# Altium footprint library Connector_Molex.PcbLib: 815 footprints (part 12 of 51)
Each footprint in its own frame and in the unit in brackets; x right, y up, seen from the top. Pads: shape width x height; smd on the part's side, far side on the other; paste and mask are expansions set on the pad; w line width, h text height; cw(c..) or ccw(c..) is an arc to the next point about the centre after c.
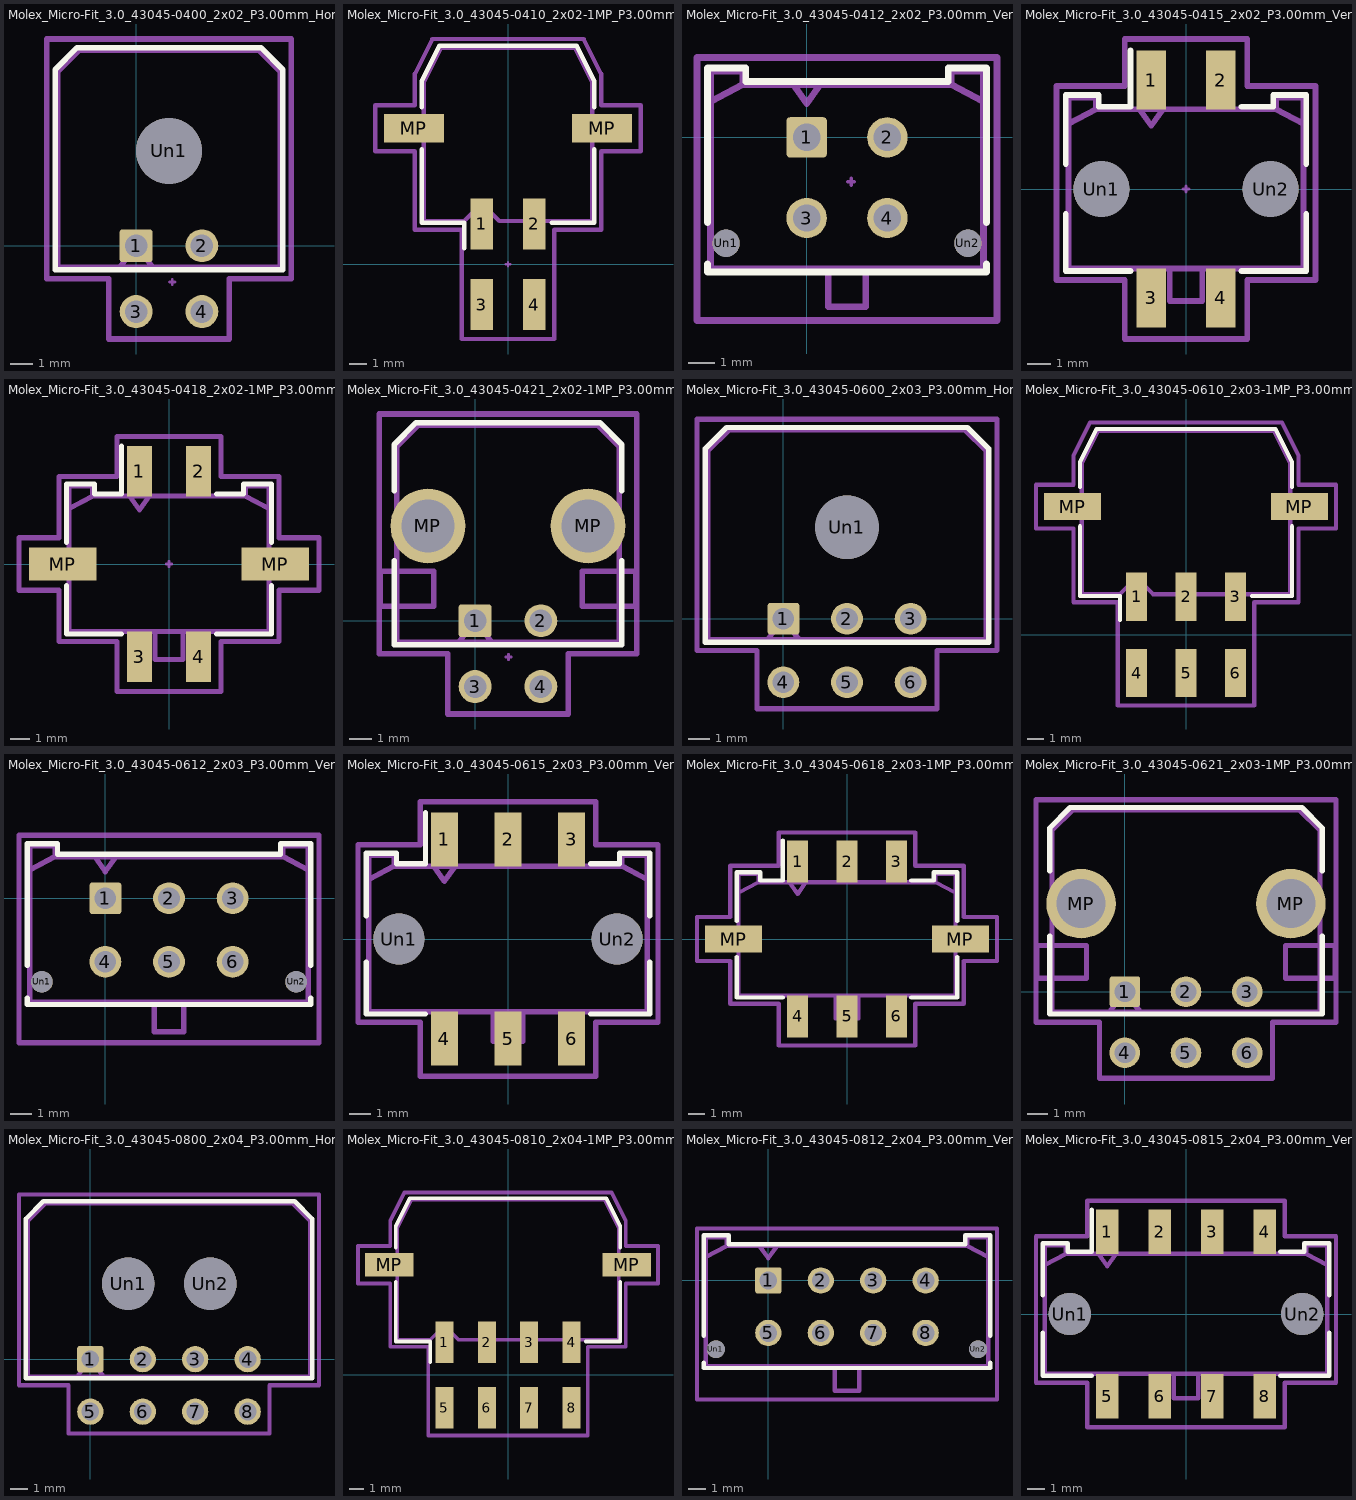
[diagram p11: the footprints below, top view; thin cyan lines are the x and y axes]

## Molex_Micro-Fit_3.0_43045-0400_2x02_P3.00mm_Horizontal [mm]
pads (5):
  rrect17% 1.5x1.5 hole 1.02: 1(0,0)
  round 1.5 hole 1.02: 2(3,0) 3(0,-3) 4(3,-3)
  round 3 hole 3: Un1(1.5,4.32)
F.SilkS:
  lines w0.254: -3.685,-1.1 -3.685,8.03 -2.685,9.03 5.685,9.03 6.685,8.03 6.685,-1.1 -3.685,-1.1
Top Component Center:
  lines w0.127: 1.524,-1.651 1.778,-1.651 ; 1.651,-1.778 1.651,-1.524
Top Assembly:
  lines w0.254: -0.75,-0.99 0,0 0.75,-0.99 ; -3.575,-0.99 -3.575,7.92 -2.575,8.92 5.575,8.92 6.575,7.92 6.575,-0.99 -3.575,-0.99
  text "'.Designator'" at -2.547,7.38 h1
Top Courtyard:
  lines w0.254: -4.08,-1.5 -4.08,9.42 7.08,9.42 7.08,-1.5 4.25,-1.5 4.25,-4.25 -1.25,-4.25 -1.25,-1.5 -4.08,-1.5
Top Designator:
  text ".Designator" at -1.91,1.433 h1.52
3D body "Molex_Micro-Fit_3.0_43045-0400_2x02_P3.00mm_Horizontal.stp": height 8.83, standoff -3.12, extent -3.551,-3.348 6.599,8.892

## Molex_Micro-Fit_3.0_43045-0410_2x02-1MP_P3.00mm_Horizontal [mm]
pads (6):
  rect 1.27x2.92 smd: 1(-1.5,2.315) 2(1.5,2.315) 3(-1.5,-2.315) 4(1.5,-2.315)
  rect 3.43x1.65 smd: MP(-5.385,7.785) MP(5.385,7.785)
F.SilkS:
  lines w0.254: -4.935,6.59 -4.935,2.365 -2.505,2.365 -2.505,0.905 ; -4.935,8.98 -4.935,10.495 -3.935,12.495 0,12.495 3.935,12.495 4.935,10.495 4.935,8.98 ; 2.505,2.365 4.935,2.365 4.935,6.59
Top Component Center:
  lines w0.127: -0.127,0 0.127,0 ; 0,-0.127 0,0.127
Top Assembly:
  lines w0.254: -4.825,2.475 -4.825,8.61 -4.825,10.385 -3.825,12.385 0,12.385 3.825,12.385 4.825,10.385 4.825,8.61 4.825,2.475 2.135,2.475 0,2.475 -0.5,2.475 -1.5,3.475 -2.5,2.475 -4.825,2.475
  text "'.Designator'" at -4.047,10.84 h1
Top Courtyard:
  lines w0.254: -7.6,6.46 -7.6,9.11 -5.33,9.11 -5.33,10.89 -4.33,12.89 0,12.89 4.33,12.89 5.33,10.89 5.33,9.11 7.6,9.11 7.6,6.46 5.33,6.46 5.33,1.98 2.64,1.98 2.64,-4.28 0,-4.28 -2.64,-4.28 -2.64,1.98 -5.33,1.98 -5.33,6.46 -7.6,6.46
Top Designator:
  text ".Designator" at -7.618,3.797 h1.52

## Molex_Micro-Fit_3.0_43045-0412_2x02_P3.00mm_Vertical [mm]
pads (6):
  rrect17% 1.5x1.5 hole 1.02: 1(0,0)
  round 1.5 hole 1.02: 2(3,0) 3(0,-3) 4(3,-3)
  round 1.02 hole 1.02: Un1(-3,-3.94) Un2(6,-3.94)
F.SilkS:
  lines w0.254: -3.685,-4.71 -3.685,-5.01 6.685,-5.01 6.685,-4.71 ; -3.685,-3.17 -3.685,2.58 -2.265,2.58 -2.265,2.08 5.265,2.08 5.265,2.58 6.685,2.58 6.685,-3.17
Top Component Center:
  lines w0.127: 1.524,-1.651 1.778,-1.651 ; 1.651,-1.778 1.651,-1.524
Top Assembly:
  lines w0.254: -3.575,1.34 -2.375,1.97 ; -0.5,1.97 0,1.263 0.5,1.97 ; 0.8,-4.9 0.8,-6.3 2.2,-6.3 2.2,-4.9 ; 6.575,1.34 5.375,1.97 ; -2.375,1.97 5.375,1.97 ; -2.375,1.97 -2.375,2.47 -3.575,2.47 -3.575,-4.9 6.575,-4.9 6.575,2.47 5.375,2.47 5.375,1.97
  text "'.Designator'" at -2.547,-5.04 h1
Top Courtyard:
  lines w0.254: -4.08,-6.81 7.08,-6.81 7.08,2.97 -4.08,2.97 -4.08,-6.81
Top Designator:
  text ".Designator" at -6.118,-2.428 h1.52

## Molex_Micro-Fit_3.0_43045-0415_2x02_P3.00mm_Vertical [mm]
pads (6):
  rect 1.27x2.54 smd: 1(-1.5,4.7) 2(1.5,4.7) 3(-1.5,-4.7) 4(1.5,-4.7)
  round 2.41 hole 2.41: Un1(-3.65,0) Un2(3.65,0)
F.SilkS:
  lines w0.254: -5.185,-1.085 -5.185,-3.54 -2.395,-3.54 ; -5.185,1.085 -5.185,4.05 -3.765,4.05 -3.765,3.55 -2.395,3.55 -2.395,5.97 ; 2.395,-3.54 5.185,-3.54 5.185,-1.085 ; 2.395,3.55 3.765,3.55 3.765,4.05 5.185,4.05 5.185,1.085
Top Component Center:
  lines w0.127: -0.127,0 0.127,0 ; 0,-0.127 0,0.127
Top Assembly:
  lines w0.254: -5.075,2.81 -3.875,3.44 ; -2,3.44 -1.5,2.733 -1,3.44 ; -0.7,-3.43 -0.7,-4.83 0.7,-4.83 0.7,-3.43 ; 5.075,2.81 3.875,3.44 ; -3.875,3.44 3.875,3.44 ; -3.875,3.44 -3.875,3.94 -5.075,3.94 -5.075,-3.43 5.075,-3.43 5.075,3.94 3.875,3.94 3.875,3.44
  text "'.Designator'" at -4.047,-3.57 h1
Top Courtyard:
  lines w0.254: -5.58,-3.93 -2.64,-3.93 -2.64,-6.47 0,-6.47 2.64,-6.47 2.64,-3.93 5.58,-3.93 5.58,4.44 2.64,4.44 2.64,6.47 0,6.47 -2.64,6.47 -2.64,4.44 -5.58,4.44 -5.58,-3.93
Top Designator:
  text ".Designator" at -7.618,-0.508 h1.52

## Molex_Micro-Fit_3.0_43045-0418_2x02-1MP_P3.00mm_Vertical [mm]
pads (6):
  rect 1.27x2.54 smd: 1(-1.5,4.7) 2(1.5,4.7) 3(-1.5,-4.7) 4(1.5,-4.7)
  rect 3.43x1.65 smd: MP(-5.385,0) MP(5.385,0)
F.SilkS:
  lines w0.254: -5.185,-1.085 -5.185,-3.54 -2.395,-3.54 ; -5.185,1.085 -5.185,4.05 -3.765,4.05 -3.765,3.55 -2.395,3.55 -2.395,5.97 ; 2.395,-3.54 5.185,-3.54 5.185,-1.085 ; 2.395,3.55 3.765,3.55 3.765,4.05 5.185,4.05 5.185,1.085
Top Component Center:
  lines w0.127: -0.127,0 0.127,0 ; 0,-0.127 0,0.127
Top Assembly:
  lines w0.254: -5.075,2.81 -3.875,3.44 ; -2,3.44 -1.5,2.733 -1,3.44 ; -0.7,-3.43 -0.7,-4.83 0.7,-4.83 0.7,-3.43 ; 5.075,2.81 3.875,3.44 ; -3.875,3.44 -3.875,3.94 -5.075,3.94 -5.075,-3.43 5.075,-3.43 5.075,3.94 3.875,3.94 3.875,3.44 ; -3.875,3.44 3.875,3.44
  text "'.Designator'" at -4.047,-3.57 h1
Top Courtyard:
  lines w0.254: -7.6,-1.33 -7.6,1.33 -5.58,1.33 -5.58,4.44 -2.64,4.44 -2.64,6.47 0,6.47 2.64,6.47 2.64,4.44 5.58,4.44 5.58,1.33 7.6,1.33 7.6,-1.33 5.58,-1.33 5.58,-3.93 2.64,-3.93 2.64,-6.47 0,-6.47 -2.64,-6.47 -2.64,-3.93 -5.58,-3.93 -5.58,-1.33 -7.6,-1.33
Top Designator:
  text ".Designator" at -7.618,-0.508 h1.52

## Molex_Micro-Fit_3.0_43045-0421_2x02-1MP_P3.00mm_Horizontal [mm]
pads (6):
  rrect17% 1.5x1.5 hole 1.02: 1(0,0)
  round 1.5 hole 1.02: 2(3,0) 3(0,-3) 4(3,-3)
  round 3.41 hole 2.41: MP(-2.15,4.32) MP(5.15,4.32)
F.SilkS:
  lines w0.254: -3.685,2.725 -3.685,-1.1 6.685,-1.1 6.685,2.725 ; -3.685,5.915 -3.685,8.03 -2.685,9.03 5.685,9.03 6.685,8.03 6.685,5.915
Top Component Center:
  lines w0.127: 1.397,-1.651 1.651,-1.651 ; 1.524,-1.778 1.524,-1.524
Top Assembly:
  lines w0.254: -0.75,-0.99 0,0 0.75,-0.99 ; -3.575,-0.99 6.575,-0.99 6.575,7.92 5.575,8.92 -2.575,8.92 -3.575,7.92 -3.575,-0.99
  text "'.Designator'" at -2.547,7.38 h1
Top Courtyard:
  lines w0.254: -4.36,-1.5 -1.25,-1.5 -1.25,-4.25 4.25,-4.25 4.25,-1.5 7.36,-1.5 7.36,9.42 -4.36,9.42 -4.36,-1.5
Top Designator:
  text ".Designator" at -6.118,2.077 h1.52
Dwgs.User:
  lines w0.254: -4.325,0.66 -1.875,0.66 -1.875,2.26 -4.325,2.26 -4.325,0.66 ; 4.875,0.66 7.325,0.66 7.325,2.26 4.875,2.26 4.875,0.66
Cmts.User:
  text "CU KEEPOUT" at 5,1.301 h0.25
  text "CU KEEPOUT" at -4.2,1.301 h0.25

## Molex_Micro-Fit_3.0_43045-0600_2x03_P3.00mm_Horizontal [mm]
pads (7):
  rrect17% 1.5x1.5 hole 1.02: 1(0,0)
  round 1.5 hole 1.02: 2(3,0) 3(6,0) 4(0,-3) 5(3,-3) 6(6,-3)
  round 3 hole 3: Un1(3,4.32)
F.SilkS:
  lines w0.254: -3.685,-1.1 -3.685,8.03 -2.685,9.03 8.685,9.03 9.685,8.03 9.685,-1.1 -3.685,-1.1
Top Assembly:
  lines w0.254: -0.75,-0.99 0,0 0.75,-0.99 ; -3.575,-0.99 -3.575,7.92 -2.575,8.92 8.575,8.92 9.575,7.92 9.575,-0.99 -3.575,-0.99
  text "'.Designator'" at -1.047,7.38 h1
Top Courtyard:
  lines w0.254: -4.08,-1.5 -4.08,9.42 10.08,9.42 10.08,-1.5 7.25,-1.5 7.25,-4.25 -1.25,-4.25 -1.25,-1.5 -4.08,-1.5
Top Designator:
  text ".Designator" at -4.618,2.077 h1.52
3D body "Molex_Micro-Fit_3.0_43045-0600_2x03_P3.00mm_Horizontal.stp": height 8.83, standoff -3.12, extent -3.52,-3.277 9.63,8.963

## Molex_Micro-Fit_3.0_43045-0610_2x03-1MP_P3.00mm_Horizontal [mm]
pads (8):
  rect 1.27x2.92 smd: 1(-3,2.315) 2(0,2.315) 3(3,2.315) 4(-3,-2.315) 5(0,-2.315) 6(3,-2.315)
  rect 3.43x1.65 smd: MP(-6.885,7.785) MP(6.885,7.785)
F.SilkS:
  lines w0.254: -6.435,6.59 -6.435,2.365 -4.005,2.365 -4.005,0.905 ; -6.435,8.98 -6.435,10.495 -5.435,12.495 0,12.495 5.435,12.495 6.435,10.495 6.435,8.98 ; 4.005,2.365 6.435,2.365 6.435,6.59
Top Assembly:
  lines w0.254: -6.325,2.475 -4,2.475 -3,3.475 -2,2.475 0,2.475 3.635,2.475 6.325,2.475 6.325,8.61 6.325,10.385 5.325,12.385 0,12.385 -5.325,12.385 -6.325,10.385 -6.325,8.61 -6.325,2.475
  text "'.Designator'" at -4.047,10.84 h1
Top Courtyard:
  lines w0.254: -9.1,6.46 -6.83,6.46 -6.83,1.98 -4.14,1.98 -4.14,-4.28 0,-4.28 4.14,-4.28 4.14,1.98 6.83,1.98 6.83,6.46 9.1,6.46 9.1,9.11 6.83,9.11 6.83,10.89 5.83,12.89 0,12.89 -5.83,12.89 -6.83,10.89 -6.83,9.11 -9.1,9.11 -9.1,6.46
Top Designator:
  text ".Designator" at -7.618,3.797 h1.52

## Molex_Micro-Fit_3.0_43045-0612_2x03_P3.00mm_Vertical [mm]
pads (8):
  rrect17% 1.5x1.5 hole 1.02: 1(0,0)
  round 1.5 hole 1.02: 2(3,0) 3(6,0) 4(0,-3) 5(3,-3) 6(6,-3)
  round 1.02 hole 1.02: Un1(-3,-3.94) Un2(9,-3.94)
F.SilkS:
  lines w0.254: -3.685,-4.71 -3.685,-5.01 9.685,-5.01 9.685,-4.71 ; -3.685,-3.17 -3.685,2.58 -2.265,2.58 -2.265,2.08 8.265,2.08 8.265,2.58 9.685,2.58 9.685,-3.17
Top Assembly:
  lines w0.254: -3.575,1.34 -2.375,1.97 ; -0.5,1.97 0,1.263 0.5,1.97 ; 2.3,-4.9 2.3,-6.3 3.7,-6.3 3.7,-4.9 ; 9.575,1.34 8.375,1.97 ; -2.375,1.97 -2.375,2.47 -3.575,2.47 -3.575,-4.9 9.575,-4.9 9.575,2.47 8.375,2.47 8.375,1.97 ; -2.375,1.97 8.375,1.97
  text "'.Designator'" at -1.047,-5.04 h1
Top Courtyard:
  lines w0.254: -4.08,-6.81 -4.08,2.97 10.08,2.97 10.08,-6.81 -4.08,-6.81
Top Designator:
  text ".Designator" at -4.618,-2.428 h1.52

## Molex_Micro-Fit_3.0_43045-0615_2x03_P3.00mm_Vertical [mm]
pads (8):
  rect 1.27x2.54 smd: 1(-3,4.7) 2(0,4.7) 3(3,4.7) 4(-3,-4.7) 5(0,-4.7) 6(3,-4.7)
  round 2.41 hole 2.41: Un1(-5.15,0) Un2(5.15,0)
F.SilkS:
  lines w0.254: -6.685,-1.085 -6.685,-3.54 -3.895,-3.54 ; -6.685,1.085 -6.685,4.05 -5.265,4.05 -5.265,3.55 -3.895,3.55 -3.895,5.97 ; 3.895,-3.54 6.685,-3.54 6.685,-1.085 ; 3.895,3.55 5.265,3.55 5.265,4.05 6.685,4.05 6.685,1.085
Top Assembly:
  lines w0.254: -6.575,2.81 -5.375,3.44 ; -3.5,3.44 -3,2.733 -2.5,3.44 ; -0.7,-3.43 -0.7,-4.83 0.7,-4.83 0.7,-3.43 ; 6.575,2.81 5.375,3.44 ; -5.375,3.44 5.375,3.44 ; -5.375,3.44 -5.375,3.94 -6.575,3.94 -6.575,-3.43 6.575,-3.43 6.575,3.94 5.375,3.94 5.375,3.44
  text "'.Designator'" at -4.047,-3.57 h1
Top Courtyard:
  lines w0.254: -7.08,-3.93 -4.14,-3.93 -4.14,-6.47 0,-6.47 4.14,-6.47 4.14,-3.93 7.08,-3.93 7.08,4.44 4.14,4.44 4.14,6.47 0,6.47 -4.14,6.47 -4.14,4.44 -7.08,4.44 -7.08,-3.93
Top Designator:
  text ".Designator" at -7.618,-0.508 h1.52

## Molex_Micro-Fit_3.0_43045-0618_2x03-1MP_P3.00mm_Vertical [mm]
pads (8):
  rect 1.27x2.54 smd: 1(-3,4.7) 2(0,4.7) 3(3,4.7) 4(-3,-4.7) 5(0,-4.7) 6(3,-4.7)
  rect 3.43x1.65 smd: MP(-6.885,0) MP(6.885,0)
F.SilkS:
  lines w0.254: -6.685,-1.085 -6.685,-3.54 -3.895,-3.54 ; -6.685,1.085 -6.685,4.05 -5.265,4.05 -5.265,3.55 -3.895,3.55 -3.895,5.97 ; 3.895,-3.54 6.685,-3.54 6.685,-1.085 ; 3.895,3.55 5.265,3.55 5.265,4.05 6.685,4.05 6.685,1.085
Top Assembly:
  lines w0.254: -6.575,2.81 -5.375,3.44 ; -3.5,3.44 -3,2.733 -2.5,3.44 ; -0.7,-3.43 -0.7,-4.83 0.7,-4.83 0.7,-3.43 ; 6.575,2.81 5.375,3.44 ; -5.375,3.44 5.375,3.44 ; -5.375,3.44 -5.375,3.94 -6.575,3.94 -6.575,-3.43 6.575,-3.43 6.575,3.94 5.375,3.94 5.375,3.44
  text "'.Designator'" at -4.047,-3.57 h1
Top Courtyard:
  lines w0.254: -9.1,-1.33 -7.08,-1.33 -7.08,-3.93 -4.14,-3.93 -4.14,-6.47 0,-6.47 4.14,-6.47 4.14,-3.93 7.08,-3.93 7.08,-1.33 9.1,-1.33 9.1,1.33 7.08,1.33 7.08,4.44 4.14,4.44 4.14,6.47 0,6.47 -4.14,6.47 -4.14,4.44 -7.08,4.44 -7.08,1.33 -9.1,1.33 -9.1,-1.33
Top Designator:
  text ".Designator" at -7.618,-0.508 h1.52

## Molex_Micro-Fit_3.0_43045-0621_2x03-1MP_P3.00mm_Horizontal [mm]
pads (8):
  rrect17% 1.5x1.5 hole 1.02: 1(0,0)
  round 1.5 hole 1.02: 2(3,0) 3(6,0) 4(0,-3) 5(3,-3) 6(6,-3)
  round 3.41 hole 2.41: MP(-2.15,4.32) MP(8.15,4.32)
F.SilkS:
  lines w0.254: -3.685,2.725 -3.685,-1.1 9.685,-1.1 9.685,2.725 ; -3.685,5.915 -3.685,8.03 -2.685,9.03 8.685,9.03 9.685,8.03 9.685,5.915
Top Assembly:
  lines w0.254: -0.75,-0.99 0,0 0.75,-0.99 ; -3.575,-0.99 9.575,-0.99 9.575,7.92 8.575,8.92 -2.575,8.92 -3.575,7.92 -3.575,-0.99
  text "'.Designator'" at -1.047,7.38 h1
Top Courtyard:
  lines w0.254: -4.36,-1.5 -1.25,-1.5 -1.25,-4.25 7.25,-4.25 7.25,-1.5 10.36,-1.5 10.36,9.42 -4.36,9.42 -4.36,-1.5
Top Designator:
  text ".Designator" at -4.618,2.077 h1.52
Dwgs.User:
  lines w0.254: -4.325,0.66 -1.875,0.66 -1.875,2.26 -4.325,2.26 -4.325,0.66 ; 7.875,0.66 10.325,0.66 10.325,2.26 7.875,2.26 7.875,0.66
Cmts.User:
  text "CU KEEPOUT" at 8,1.301 h0.25
  text "CU KEEPOUT" at -4.2,1.301 h0.25

## Molex_Micro-Fit_3.0_43045-0800_2x04_P3.00mm_Horizontal [mm]
pads (10):
  rrect17% 1.5x1.5 hole 1.02: 1(0,0)
  round 1.5 hole 1.02: 2(3,0) 3(6,0) 4(9,0) 5(0,-3) 6(3,-3) 7(6,-3) 8(9,-3)
  round 3 hole 3: Un1(2.16,4.32) Un2(6.86,4.32)
F.SilkS:
  lines w0.254: -3.685,-1.1 12.685,-1.1 12.685,8.03 11.685,9.03 -2.685,9.03 -3.685,8.03 -3.685,-1.1
Top Assembly:
  lines w0.254: -0.75,-0.99 0,0 0.75,-0.99 ; -3.575,-0.99 12.575,-0.99 12.575,7.92 11.575,8.92 -2.575,8.92 -3.575,7.92 -3.575,-0.99
  text "'.Designator'" at 0.453,7.38 h1
Top Courtyard:
  lines w0.254: -4.08,-1.5 -1.25,-1.5 -1.25,-4.25 10.25,-4.25 10.25,-1.5 13.08,-1.5 13.08,9.42 -4.08,9.42 -4.08,-1.5
Top Designator:
  text ".Designator" at -3.118,2.077 h1.52
3D body "Molex_Micro-Fit_3.0_43045-0800_2x04_P3.00mm_Horizontal.stp": height 8.83, standoff -3.12, extent -3.577,-3.326 12.573,8.914

## Molex_Micro-Fit_3.0_43045-0810_2x04-1MP_P3.00mm_Horizontal [mm]
pads (10):
  rect 1.27x2.92 smd: 1(-4.5,2.315) 2(-1.5,2.315) 3(1.5,2.315) 4(4.5,2.315) 5(-4.5,-2.315) 6(-1.5,-2.315) 7(1.5,-2.315) 8(4.5,-2.315)
  rect 3.43x1.65 smd: MP(-8.385,7.785) MP(8.385,7.785)
F.SilkS:
  lines w0.254: -7.935,6.59 -7.935,2.365 -5.505,2.365 -5.505,0.905 ; -7.935,8.98 -7.935,10.495 -6.935,12.495 0,12.495 6.935,12.495 7.935,10.495 7.935,8.98 ; 5.505,2.365 7.935,2.365 7.935,6.59
Top Assembly:
  lines w0.254: -7.825,2.475 -7.825,8.61 -7.825,10.385 -6.825,12.385 0,12.385 6.825,12.385 7.825,10.385 7.825,8.61 7.825,2.475 5.135,2.475 0,2.475 -3.5,2.475 -4.5,3.475 -5.5,2.475 -7.825,2.475
  text "'.Designator'" at -4.047,10.84 h1
Top Courtyard:
  lines w0.254: -10.6,6.46 -10.6,9.11 -8.33,9.11 -8.33,10.89 -7.33,12.89 0,12.89 7.33,12.89 8.33,10.89 8.33,9.11 10.6,9.11 10.6,6.46 8.33,6.46 8.33,1.98 5.64,1.98 5.64,-4.28 0,-4.28 -5.64,-4.28 -5.64,1.98 -8.33,1.98 -8.33,6.46 -10.6,6.46
Top Designator:
  text ".Designator" at -7.618,3.797 h1.52

## Molex_Micro-Fit_3.0_43045-0812_2x04_P3.00mm_Vertical [mm]
pads (10):
  rrect17% 1.5x1.5 hole 1.02: 1(0,0)
  round 1.5 hole 1.02: 2(3,0) 3(6,0) 4(9,0) 5(0,-3) 6(3,-3) 7(6,-3) 8(9,-3)
  round 1.02 hole 1.02: Un1(-3,-3.94) Un2(12,-3.94)
F.SilkS:
  lines w0.254: -3.685,-4.71 -3.685,-5.01 12.685,-5.01 12.685,-4.71 ; -3.685,-3.17 -3.685,2.58 -2.265,2.58 -2.265,2.08 11.265,2.08 11.265,2.58 12.685,2.58 12.685,-3.17
Top Assembly:
  lines w0.254: -3.575,1.34 -2.375,1.97 ; -0.5,1.97 0,1.263 0.5,1.97 ; 3.8,-4.9 3.8,-6.3 5.2,-6.3 5.2,-4.9 ; 12.575,1.34 11.375,1.97 ; -2.375,1.97 11.375,1.97 ; -2.375,1.97 -2.375,2.47 -3.575,2.47 -3.575,-4.9 12.575,-4.9 12.575,2.47 11.375,2.47 11.375,1.97
  text "'.Designator'" at 0.453,-5.04 h1
Top Courtyard:
  lines w0.254: -4.08,-6.81 13.08,-6.81 13.08,2.97 -4.08,2.97 -4.08,-6.81
Top Designator:
  text ".Designator" at -3.118,-2.428 h1.52

## Molex_Micro-Fit_3.0_43045-0815_2x04_P3.00mm_Vertical [mm]
pads (10):
  rect 1.27x2.54 smd: 1(-4.5,4.7) 2(-1.5,4.7) 3(1.5,4.7) 4(4.5,4.7) 5(-4.5,-4.7) 6(-1.5,-4.7) 7(1.5,-4.7) 8(4.5,-4.7)
  round 2.41 hole 2.41: Un1(-6.65,0) Un2(6.65,0)
F.SilkS:
  lines w0.254: -8.185,-1.085 -8.185,-3.54 -5.395,-3.54 ; -8.185,1.085 -8.185,4.05 -6.765,4.05 -6.765,3.55 -5.395,3.55 -5.395,5.97 ; 5.395,-3.54 8.185,-3.54 8.185,-1.085 ; 5.395,3.55 6.765,3.55 6.765,4.05 8.185,4.05 8.185,1.085
Top Assembly:
  lines w0.254: -8.075,2.81 -6.875,3.44 ; -5,3.44 -4.5,2.733 -4,3.44 ; -0.7,-3.43 -0.7,-4.83 0.7,-4.83 0.7,-3.43 ; 8.075,2.81 6.875,3.44 ; -6.875,3.44 6.875,3.44 ; -6.875,3.44 -6.875,3.94 -8.075,3.94 -8.075,-3.43 8.075,-3.43 8.075,3.94 6.875,3.94 6.875,3.44
  text "'.Designator'" at -4.047,-3.57 h1
Top Courtyard:
  lines w0.254: -8.58,-3.93 -5.64,-3.93 -5.64,-6.47 0,-6.47 5.64,-6.47 5.64,-3.93 8.58,-3.93 8.58,4.44 5.64,4.44 5.64,6.47 0,6.47 -5.64,6.47 -5.64,4.44 -8.58,4.44 -8.58,-3.93
Top Designator:
  text ".Designator" at -7.618,-0.508 h1.52